# Altium footprint library MiniRobot.PcbLib: 16 footprints
Each footprint in its own frame and in the unit in brackets; x right, y up, seen from the top. Pads: shape width x height; smd on the part's side, far side on the other; paste and mask are expansions set on the pad; w line width, h text height; cw(c..) or ccw(c..) is an arc to the next point about the centre after c.
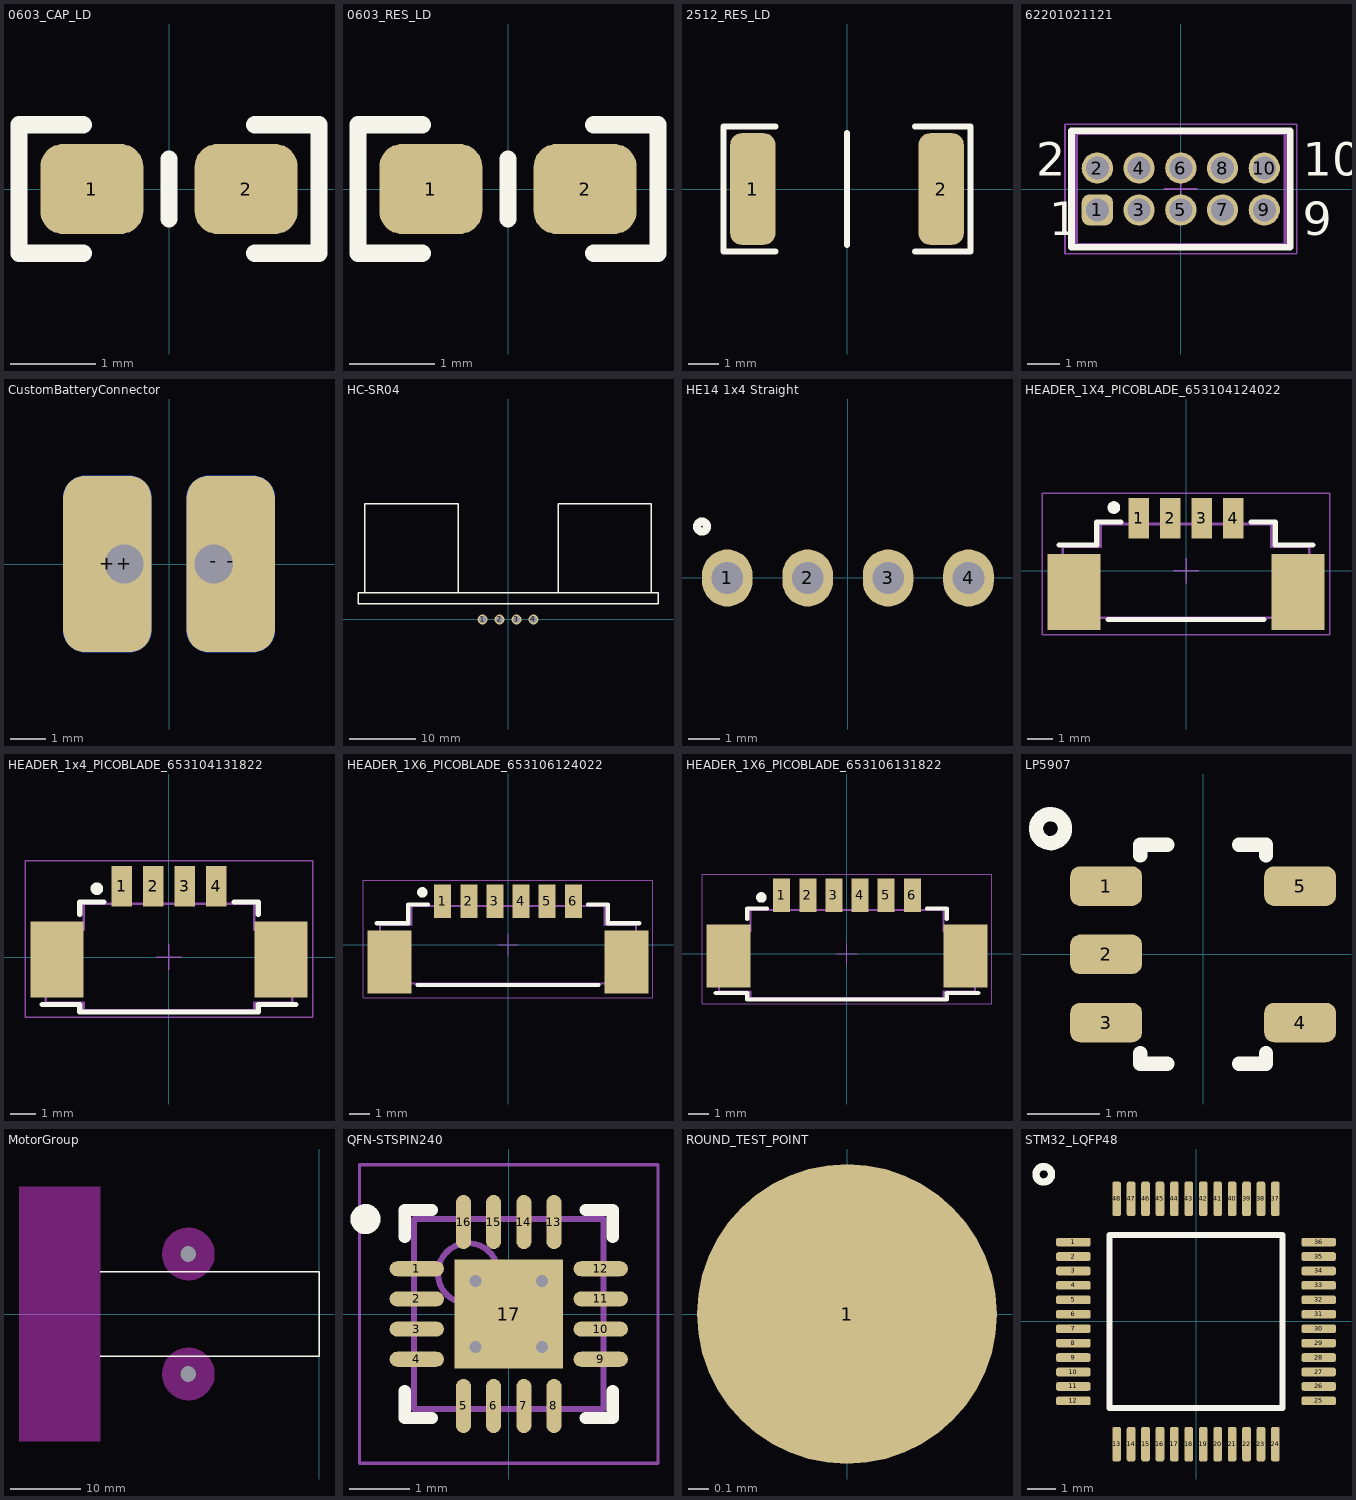
[diagram p0: the footprints below, top view; thin cyan lines are the x and y axes]

## 0603_CAP_LD [mm] "0603 Capacitor Low Density"
height 0.55
pads (2):
  rrect50% 1.2x1.05 smd: 1(-0.9,0) 2(0.9,0)
Top Overlay:
  lines w0.2: -1,-0.75 -1.75,-0.75 -1.75,0.75 -1,0.75 ; 0,-0.35 0,0.35 ; 1,-0.75 1.75,-0.75 1.75,0.75 1,0.75
3D body: height 0.55, standoff 0, extent -0.85,-0.45 -0.55,0.45
3D body: height 0.55, standoff 0, extent 0.55,-0.45 0.85,0.45

## 0603_RES_LD [mm] "0603 Resistor Low Density"
height 0.55
pads (2):
  rrect50% 1.2x1.05 smd: 1(-0.9,0) 2(0.9,0)
Top Overlay:
  lines w0.2: -1,-0.75 -1.75,-0.75 -1.75,0.75 -1,0.75 ; 0,-0.35 0,0.35 ; 1,-0.75 1.75,-0.75 1.75,0.75 1,0.75
3D body: height 0.55, standoff 0, extent -0.85,-0.45 -0.55,0.45
3D body: height 0.55, standoff 0, extent -0.55,-0.45 0.55,0.45
3D body: height 0.55, standoff 0, extent 0.55,-0.45 0.85,0.45

## 2512_RES_LD [mm] "2512 Low Density Resistor"
pads (2):
  rrect50% 1.5x3.7 smd: 1(-3.125,0) 2(3.125,0)
Top Overlay:
  lines w0.2: -2.375,-2.075 -4.1,-2.075 -4.1,2.075 -2.375,2.075 ; 0,-1.85 0,1.85 ; 2.25,-2.075 4.1,-2.075 4.1,2.075 2.25,2.075

## 62201021121 [mm] "Pin Header, pitch 1.27 mm, THT, Vertical, dual row, 10p"
height 5.65
pads (10):
  rrect50% 0.95x0.95 hole 0.7: 1(-2.54,-0.635)
  round 0.95 hole 0.7: 2(-2.54,0.635) 3(-1.27,-0.635) 4(-1.27,0.635) 5(0,-0.635) 6(0,0.635) 7(1.27,-0.635) 8(1.27,0.635) 9(2.54,-0.635) 10(2.54,0.635)
Top Overlay:
  lines w0.2: -3.325,-1.775 -3.325,1.775 3.325,1.775 3.325,-1.775 -3.325,-1.775
  text "9" at 3.705,-1.4 h1.02
  text "10" at 3.705,0.4 h1.02
  text "1" at -4.005,-1.4 h1.02
  text "2" at -4.405,0.4 h1.02
Top 3D Body:
  lines w0.1: -3.175,-1.7 -3.175,1.7 3.175,1.7 3.175,-1.7 -3.175,-1.7
Top Courtyard:
  lines w0.05: -0.5,0 0.5,0 ; 0,-0.5 0,0.5 ; -3.525,-1.975 -3.525,1.975 3.525,1.975 3.525,-1.975 -3.525,-1.975
Top Designator:
  text ".Designator" at -5.998,-0.4 h1.2
Top Component Outline:
  lines w0.1: -3.175,-1.7 -3.175,1.7 3.175,1.7 3.175,-1.7 -3.175,-1.7
3D body: height 5.33, standoff -2.27, extent -3.175,-1.7 3.175,1.7

## CustomBatteryConnector [mm] "CustomBatteryConnector"
pads (6):
  rrect50% 2.5x5 smd paste-100: +(-1.75,0) -(1.75,0)
  rrect50% 2.5x5 smd far side paste-100: +(-1.75,0) -(1.75,0)
  round 1.5 hole 1.1 unplated paste-100: +(-1.27,0) -(1.27,0)

## HC-SR04 [mm] "HC-SR04"
pads (4):
  round 1.5 hole 1.1 unplated: 1(-3.81,0) 2(-1.27,0) 3(1.27,0) 4(3.81,0)
Top Overlay:
  lines w0.2: -21.5,3.975 -21.5,17.375 -7.5,17.375 -7.5,3.975 ; 7.5,3.975 7.5,17.375 21.5,17.375 21.5,3.975 ; -22.5,2.375 -22.5,3.975 22.5,3.975 22.5,2.375 -22.5,2.375
3D body: height 20, standoff -6.2, extent -22.725,-0.3 22.725,17.49

## HE14 1x4 Straight [mm] "Connector HE14 Straight 1x4"
pads (4):
  oval 1.6x1.8 hole 1 mask+0.102: 1(-3.81,0) 2(-1.27,0) 3(1.27,0) 4(3.81,0)
Top Overlay:
  circle w0.254: c-4.608,1.625 r0.158
3D body: height 9.5, standoff -3.2, extent -5.08,-1.27 5.08,1.27

## HEADER_1X4_PICOBLADE_653104124022 [mm] "1.25mm SMT Male Vertical Shrouded Header, 4p"
height 4.75
pads (6):
  rect 0.81x1.6 smd: 1(-1.875,2.07) 2(-0.625,2.07) 3(0.625,2.07) 4(1.875,2.07)
  rect 2.1x3 smd: ""(-4.425,-0.83) ""(4.425,-0.83)
Top Overlay:
  circle w0.25: c-2.85,2.5 r0.125
  lines w0.2: -5.025,1.025 -3.525,1.025 -3.525,1.925 -2.575,1.925 ; -3.075,-1.925 3.075,-1.925 ; 2.575,1.925 3.525,1.925 3.525,1.025 5.025,1.025
Mechanical 13:
  lines w0.1: -4.875,-1.85 4.875,-1.85 4.875,0.95 3.375,0.95 3.375,1.85 -3.375,1.85 -3.375,0.95 -4.875,0.95 -4.875,-1.85
Mechanical 15:
  lines w0.05: -0.5,0 0.5,0 ; 0,-0.5 0,0.5 ; -5.675,-2.53 5.675,-2.53 5.675,3.07 -5.675,3.07 -5.675,-2.53

## HEADER_1x4_PICOBLADE_653104131822 [mm] "1.25mm SMT Male Horizontal Shrouded Header, 4p"
height 3.4
pads (6):
  rect 0.81x1.6 smd: 1(-1.875,2.8) 2(-0.625,2.8) 3(0.625,2.8) 4(1.875,2.8)
  rect 2.1x3 smd: ""(-4.425,-0.1) ""(4.425,-0.1)
Top Overlay:
  circle w0.25: c-2.85,2.7 r0.125
  lines w0.2: -5.025,-1.875 -3.525,-1.875 -3.525,-2.175 3.525,-2.175 3.525,-1.875 5.025,-1.875 ; -3.525,1.675 -3.525,2.175 -2.575,2.175 ; 2.575,2.175 3.525,2.175 3.525,1.675
Mechanical 13:
  lines w0.1: -4.875,-1.78 -4.875,1.08 -3.375,1.08 -3.375,2.1 3.375,2.1 3.375,1.08 4.875,1.08 4.875,-1.78 ; -4.855,-1.8 -3.375,-1.8 -3.375,-2.1 3.375,-2.1 3.375,-1.8 4.855,-1.8
Mechanical 15:
  lines w0.05: -0.5,0 0.5,0 ; 0,-0.5 0,0.5 ; -5.675,-2.375 -5.675,3.8 5.675,3.8 5.675,-2.375 -5.675,-2.375

## HEADER_1X6_PICOBLADE_653106124022 [mm] "1.25mm SMT Male Vertical Shrouded Header, 6p"
height 4.75
pads (8):
  rect 0.81x1.6 smd: 1(-3.125,2.07) 2(-1.875,2.07) 3(-0.625,2.07) 4(0.625,2.07) 5(1.875,2.07) 6(3.125,2.07)
  rect 2.1x3 smd: ""(-5.675,-0.83) ""(5.675,-0.83)
Top Overlay:
  circle w0.25: c-4.1,2.5 r0.125
  lines w0.2: -6.275,1.025 -4.775,1.025 -4.775,1.925 -3.825,1.925 ; -4.325,-1.925 4.325,-1.925 ; 3.825,1.925 4.775,1.925 4.775,1.025 6.275,1.025
Mechanical 13:
  lines w0.1: -6.125,-1.85 -6.125,0.95 -4.625,0.95 -4.625,1.85 4.625,1.85 4.625,0.95 6.125,0.95 6.125,-1.85 -6.125,-1.85
Mechanical 15:
  lines w0.05: -0.5,0 0.5,0 ; 0,-0.5 0,0.5 ; -6.925,-2.53 -6.925,3.07 6.925,3.07 6.925,-2.53 -6.925,-2.53
3D body: height 4.74, standoff -0.01, extent -6.225,-1.85 6.225,2.355

## HEADER_1X6_PICOBLADE_653106131822 [mm] "1.25mm SMT Male Horizontal Shrouded Header, 6p"
height 3.4
pads (8):
  rect 0.81x1.6 smd: 1(-3.125,2.8) 2(-1.875,2.8) 3(-0.625,2.8) 4(0.625,2.8) 5(1.875,2.8) 6(3.125,2.8)
  rect 2.1x3 smd: ""(-5.675,-0.1) ""(5.675,-0.1)
Top Overlay:
  circle w0.25: c-4.1,2.7 r0.125
  lines w0.2: -6.275,-1.875 -4.775,-1.875 -4.775,-2.175 4.775,-2.175 4.775,-1.875 6.275,-1.875 ; -4.775,1.675 -4.775,2.175 -3.825,2.175 ; 3.825,2.175 4.775,2.175 4.775,1.675
Mechanical 13:
  lines w0.1: -6.125,-1.78 -6.125,1.08 -4.625,1.08 -4.625,2.1 4.625,2.1 4.625,1.08 6.125,1.08 6.125,-1.78 ; -6.105,-1.8 -4.625,-1.8 -4.625,-2.1 4.625,-2.1 4.625,-1.8 6.105,-1.8
Mechanical 15:
  lines w0.05: -0.5,0 0.5,0 ; 0,-0.5 0,0.5 ; -6.925,-2.375 6.925,-2.375 6.925,3.8 -6.925,3.8 -6.925,-2.375

## LP5907 [mm] "LP5907 SOT23"
pads (5):
  rrect50% 1x0.55 smd mask+0.102: 1(-1.35,0.95) 2(-1.35,0) 3(-1.35,-0.95) 4(1.35,-0.95) 5(1.35,0.95)
Top Overlay:
  circle w0.2: c-2.125,1.75 r0.202
  lines w0.2: -0.875,-1.375 -0.875,-1.525 -0.5,-1.525 ; -0.875,1.375 -0.875,1.525 -0.5,1.525 ; 0.5,-1.525 0.875,-1.525 0.875,-1.375 ; 0.5,1.525 0.875,1.525 0.875,1.375

## MotorGroup [mm]
pads (2):
  round 0 hole 2.2 unplated paste+0 mask+0: 21(-18.5,8.5) 22(-18.5,-8.5)
Top Overlay:
  lines w0.2: -31,-6 0,-6 0,6 -31,6
Keep-Out Layer:
  circle w2.6: c-18.5,-8.5 r2.425
  circle w2.6: c-18.5,8.5 r2.425
  region: -31,-18 -31,18 -42.5,18 -42.5,-18

## QFN-STSPIN240 [mm] "QFN, 16-Leads, Body 3,00x3,00mm, Pitch 0,50mm, Thermal Pad 1,80x1,80mm, IPC Low Density"
height 1
pads (17):
  oval 0.9x0.25 smd: 1(-1.525,0.75) 2(-1.525,0.25) 3(-1.525,-0.25) 4(-1.525,-0.75) 9(1.525,-0.75) 10(1.525,-0.25) 11(1.525,0.25) 12(1.525,0.75)
  oval 0.25x0.9 smd: 5(-0.75,-1.525) 6(-0.25,-1.525) 7(0.25,-1.525) 8(0.75,-1.525) 13(0.75,1.525) 14(0.25,1.525) 15(-0.25,1.525) 16(-0.75,1.525)
  rect 1.8x1.8 smd: 17(0,0)
via 0.55,-0.55 diameter 0.5 hole 0.2
via -0.55,-0.55 diameter 0.5 hole 0.2
via 0.55,0.55 diameter 0.5 hole 0.2
via -0.55,0.55 diameter 0.5 hole 0.2
Top Overlay:
  circle w0.25: c-2.375,1.575 r0.125
  lines w0.2: -1.725,-1.275 -1.725,-1.725 -1.275,-1.725 ; -1.725,1.275 -1.725,1.725 -1.275,1.725 ; 1.275,-1.725 1.725,-1.725 1.725,-1.275 ; 1.275,1.725 1.725,1.725 1.725,1.275
Mechanical 13:
  circle w0.1: c-0.675,0.675 r0.5
  lines w0.1: -1.575,-1.575 1.575,-1.575 1.575,1.575 -1.575,1.575 -1.575,-1.575
Mechanical 15:
  lines w0.05: -2.475,-2.475 2.475,-2.475 2.475,2.475 -2.475,2.475 -2.475,-2.475
  lines w0.1: -0.5,0 0.5,0 ; 0,-0.5 0,0.5
3D body: height 1, standoff 0.02, extent -1.575,-1.575 1.575,1.575

## ROUND_TEST_POINT [mm] "Small round test point"
pads (1):
  round 1.5 smd paste-100: 1(0,0)

## STM32_LQFP48 [mm]
pads (48):
  rrect50% 1.2x0.3 smd: 1(-4.25,2.75) 2(-4.25,2.25) 3(-4.25,1.75) 4(-4.25,1.25) 5(-4.25,0.75) 6(-4.25,0.25) 7(-4.25,-0.25) 8(-4.25,-0.75) 9(-4.25,-1.25) 10(-4.25,-1.75) 11(-4.25,-2.25) 12(-4.25,-2.75) 25(4.25,-2.75) 26(4.25,-2.25) 27(4.25,-1.75) 28(4.25,-1.25) 29(4.25,-0.75) 30(4.25,-0.25) 31(4.25,0.25) 32(4.25,0.75) 33(4.25,1.25) 34(4.25,1.75) 35(4.25,2.25) 36(4.25,2.75)
  rrect50% 0.3x1.2 smd: 13(-2.75,-4.25) 14(-2.25,-4.25) 15(-1.75,-4.25) 16(-1.25,-4.25) 17(-0.75,-4.25) 18(-0.25,-4.25) 19(0.25,-4.25) 20(0.75,-4.25) 21(1.25,-4.25) 22(1.75,-4.25) 23(2.25,-4.25) 24(2.75,-4.25) 37(2.75,4.25) 38(2.25,4.25) 39(1.75,4.25) 40(1.25,4.25) 41(0.75,4.25) 42(0.25,4.25) 43(-0.25,4.25) 44(-0.75,4.25) 45(-1.25,4.25) 46(-1.75,4.25) 47(-2.25,4.25) 48(-2.75,4.25)
Top Overlay:
  circle w0.254: c-5.275,5.1 r0.269
  lines w0.2: -3,-3 3,-3 3,3 -3,3 -3,-3